# Altium footprint library Schroff.PcbLib: 1 footprints
Each footprint in its own frame and in the unit in brackets; x right, y up, seen from the top. Pads: shape width x height; smd on the part's side, far side on the other; paste and mask are expansions set on the pad; w line width, h text height; cw(c..) or ccw(c..) is an arc to the next point about the centre after c.
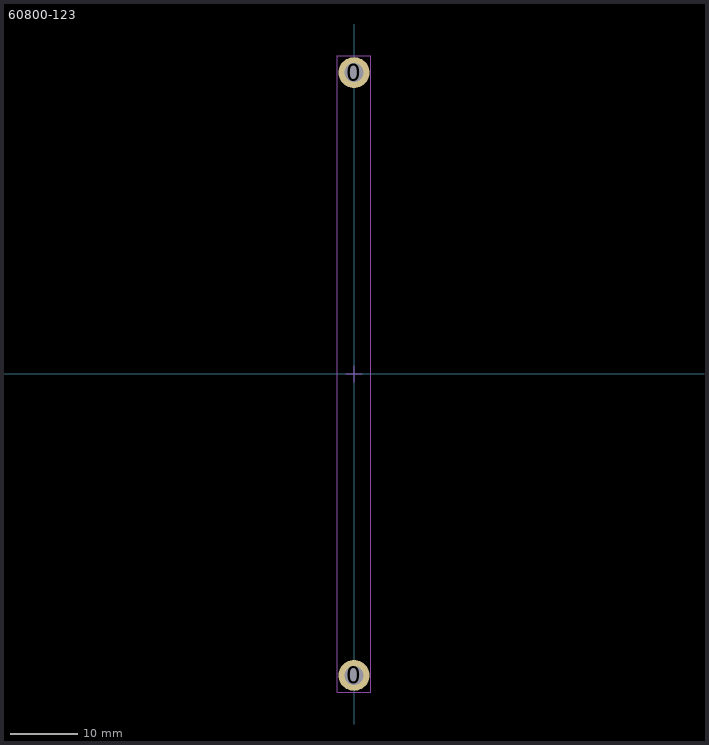
[diagram p0: the footprint, top view; thin cyan lines are the x and y axes]

## 60800-123 [mm] "Coding Strip"
height 10
pads (2):
  round 4.6 hole 2.8: 0(0,-45) 0(0,45)
Mechanical 13:
  lines w0.1: -2.5,-47.5 -2.5,47.5 2.5,47.5 2.5,-47.5 -2.5,-47.5
Mechanical 15:
  lines w0.05: -2.5,-47.5 2.5,-47.5 2.5,47.5 -2.5,47.5 -2.5,-47.5
  lines w0.1: -1.25,0 1.25,0 ; 0,-1.25 0,1.25
3D body: height 10, standoff 0, extent -2.5,-47.5 2.5,47.5